# EAGLE library part HTOL_COLD_EDGE (library connector)
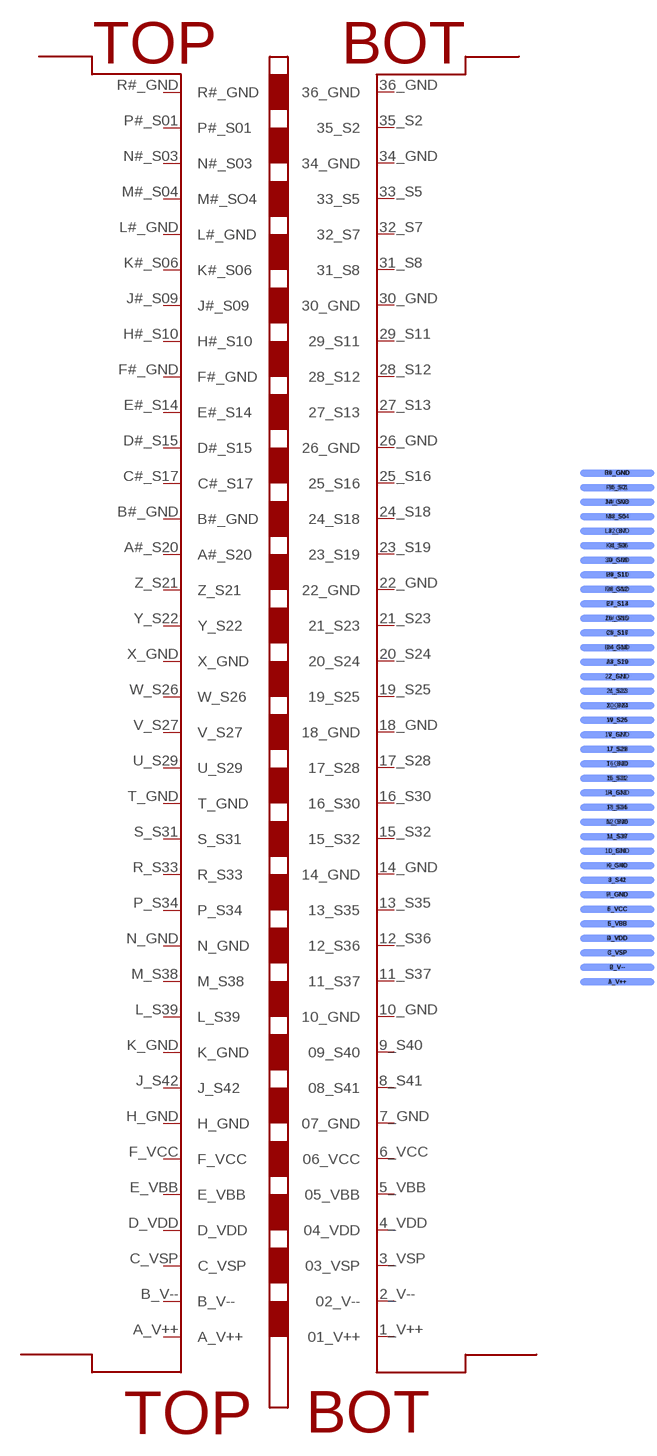
[diagram p11: symbol with the pads of HTOL_COLD_EDGE; footprint HTOL_COLD_EDGE]

Designator prefix -

## HTOL_COLD_EDGE  [HTOL_COLD_EDGE]
1_V++  01_V++
2_V--  02_V--
3_VSP  03_VSP
4_VDD  04_VDD
5_VBB  05_VBB
6_VCC  06_VCC
7_GND  07_GND
8_S41  08_S41
9_S40  09_S40
10_GND  10_GND
11_S37  11_S37
12_S36  12_S36
13_S35  13_S35
14_GND  14_GND
15_S32  15_S32
16_S30  16_S30
17_S28  17_S28
18_GND  18_GND
19_S25  19_S25
20_S24  20_S24
21_S23  21_S23
22_GND  22_GND
23_S19  23_S19
24_S18  24_S18
25_S16  25_S16
26_GND  26_GND
27_S13  27_S13
28_S12  28_S12
29_S11  29_S11
30_GND  30_GND
31_S8  31_S8
32_S7  32_S7
33_S5  33_S5
34_GND  34_GND
35_S2  35_S2
36_GND  36_GND
A#_S20  A#_S20
A_V++  A_V++
B#_GND  B#_GND
B_V--  B_V--
C#_S17  C#_S17
C_VSP  C_VSP
D#_S15  D#_S15
D_VDD  D_VDD
E#_S14  E#_S14
E_VBB  E_VBB
F#_GND  F#_GND
F_VCC  F_VCC
H#_S10  H#_S10
H_GND  H_GND
J#_S09  J#_S09
J_S42  J_S42
K#_S06  K#_S06
K_GND  K_GND
L#_GND  L#_GND
L_S39  L_S39
M#_S04  M#_SO4
M_S38  M_S38
N#_S03  N#_S03
N_GND  N_GND
P#_S01  P#_S01
P_S34  P_S34
R#_GND  R#_GND
R_S33  R_S33
S_S31  S_S31
T_GND  T_GND
U_S29  U_S29
V_S27  V_S27
W_S26  W_S26
X_GND  X_GND
Y_S22  Y_S22
Z_S21  Z_S21

## Footprint HTOL_COLD_EDGE (pad centres in mm)
smd 20.32 x 1.905 bottom: 1_V++ 12.7,5.08; 2_V-- 12.7,9.042; 3_VSP 12.7,13.005; 4_VDD 12.7,16.967; 5_VBB 12.7,20.93; 6_VCC 12.7,24.892; 7_GND 12.7,28.854; 8_S41 12.7,32.817; 9_S40 12.7,36.779; 10_GND 12.7,40.742; 11_S37 12.7,44.704; 12_S36 12.7,48.666; 13_S35 12.7,52.629; 14_GND 12.7,56.591; 15_S32 12.7,60.554; 16_S30 12.7,64.516; 17_S28 12.7,68.478; 18_GND 12.7,72.441; 19_S25 12.7,76.403; 20_S24 12.7,80.366; 21_S23 12.7,84.328; 22_GND 12.7,88.29; 23_S19 12.7,92.253; 24_S18 12.7,96.215; 25_S16 12.7,100.178; 26_GND 12.7,104.14; 27_S13 12.7,108.102; 28_S12 12.7,112.065; 29_S11 12.7,116.027; 30_GND 12.7,119.99; 31_S8 12.7,123.952; 32_S7 12.7,127.914; 33_S5 12.7,131.877; 34_GND 12.7,135.839; 35_S2 12.7,139.802; 36_GND 12.7,143.764
smd 20.32 x 1.905: A#_S20 12.7,92.253; A_V++ 12.7,5.08; B#_GND 12.7,96.215; B_V-- 12.7,9.042; C#_S17 12.7,100.178; C_VSP 12.7,13.005; D#_S15 12.7,104.14; D_VDD 12.7,16.967; E#_S14 12.7,108.102; E_VBB 12.7,20.93; F#_GND 12.7,112.065; F_VCC 12.7,24.892; H#_S10 12.7,116.027; H_GND 12.7,28.854; J#_S09 12.7,119.99; J_S42 12.7,32.817; K#_S06 12.7,123.952; K_GND 12.7,36.779; L#_GND 12.7,127.914; L_S39 12.7,40.742; M#_S04 12.7,131.877; M_S38 12.7,44.704; N#_S03 12.7,135.839; N_GND 12.7,48.666; P#_S01 12.7,139.802; P_S34 12.7,52.629; R#_GND 12.7,143.764; R_S33 12.7,56.591; S_S31 12.7,60.554; T_GND 12.7,64.516; U_S29 12.7,68.478; V_S27 12.7,72.441; W_S26 12.7,76.403; X_GND 12.7,80.366; Y_S22 12.7,84.328; Z_S21 12.7,88.29